# EAGLE library part HM-10 (library hm_10)
HM Bluetooth module use TI CC2540 or CC2541, Master and slave roles in one, transmission version and remote control version and PIO state acquisition functions in one, Support the AT command modify module parameters, Convenient and flexible.
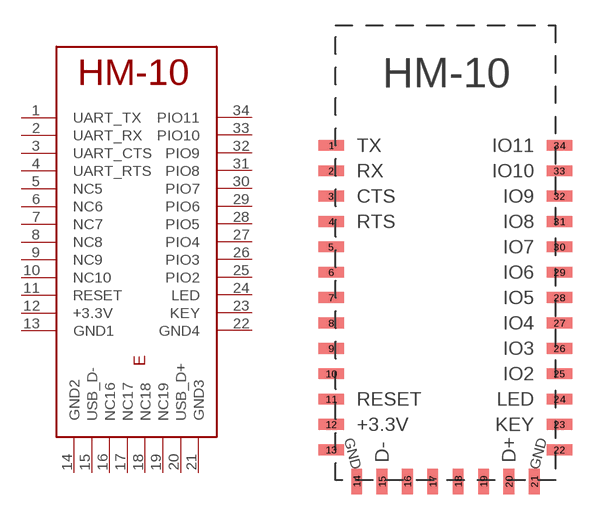
[diagram p0: symbol with the pads of HM-10; footprint HM-10]

Designator prefix E

## HM-10BOARD  [HM-10]
1  UART_TX
2  UART_RX
3  UART_CTS
4  UART_RTS
5  NC5
6  NC6
7  NC7
8  NC8
9  NC9
10  NC10
11  RESET
12  +3.3V
13  GND1
14  GND2
15  USB_D-
16  NC16
17  NC17
18  NC18
19  NC19
20  USB_D+
21  GND3
22  GND4
23  KEY
24  LED
25  PIO2
26  PIO3
27  PIO4
28  PIO5
29  PIO6
30  PIO7
31  PIO8
32  PIO9
33  PIO10
34  PIO11

## Footprint HM-10 (pad centres in mm)
HM-01, HM-02, HM-09, HM-10 have same size and same pins. 26.9mm x 13mm x 2.2 mm
smd 1.5 x 0.635: 1 -7.5,0; 2 -7.5,-1.5; 3 -7.5,-3; 4 -7.5,-4.5; 5 -7.5,-6; 6 -7.5,-7.5; 7 -7.5,-9; 8 -7.5,-10.5; 9 -7.5,-12; 10 -7.5,-13.5; 11 -7.5,-15; 12 -7.5,-16.5; 13 -7.5,-18; 22 6,-18; 23 6,-16.5; 24 6,-15; 25 6,-13.5; 26 6,-12; 27 6,-10.5; 28 6,-9; 29 6,-7.5; 30 6,-6; 31 6,-4.5; 32 6,-3; 33 6,-1.5; 34 6,0
smd 0.635 x 1.5: 14 -6,-19.875; 15 -4.5,-19.875; 16 -3,-19.875; 17 -1.5,-19.875; 18 0,-19.875; 19 1.5,-19.875; 20 3,-19.875; 21 4.5,-19.875